# Altium footprint library blecontrollerPCB1_master.PcbLib: 180 footprints (part 9 of 12)
Each footprint in its own frame and in the unit in brackets; x right, y up, seen from the top. Pads: shape width x height; smd on the part's side, far side on the other; paste and mask are expansions set on the pad; w line width, h text height; cw(c..) or ccw(c..) is an arc to the next point about the centre after c.
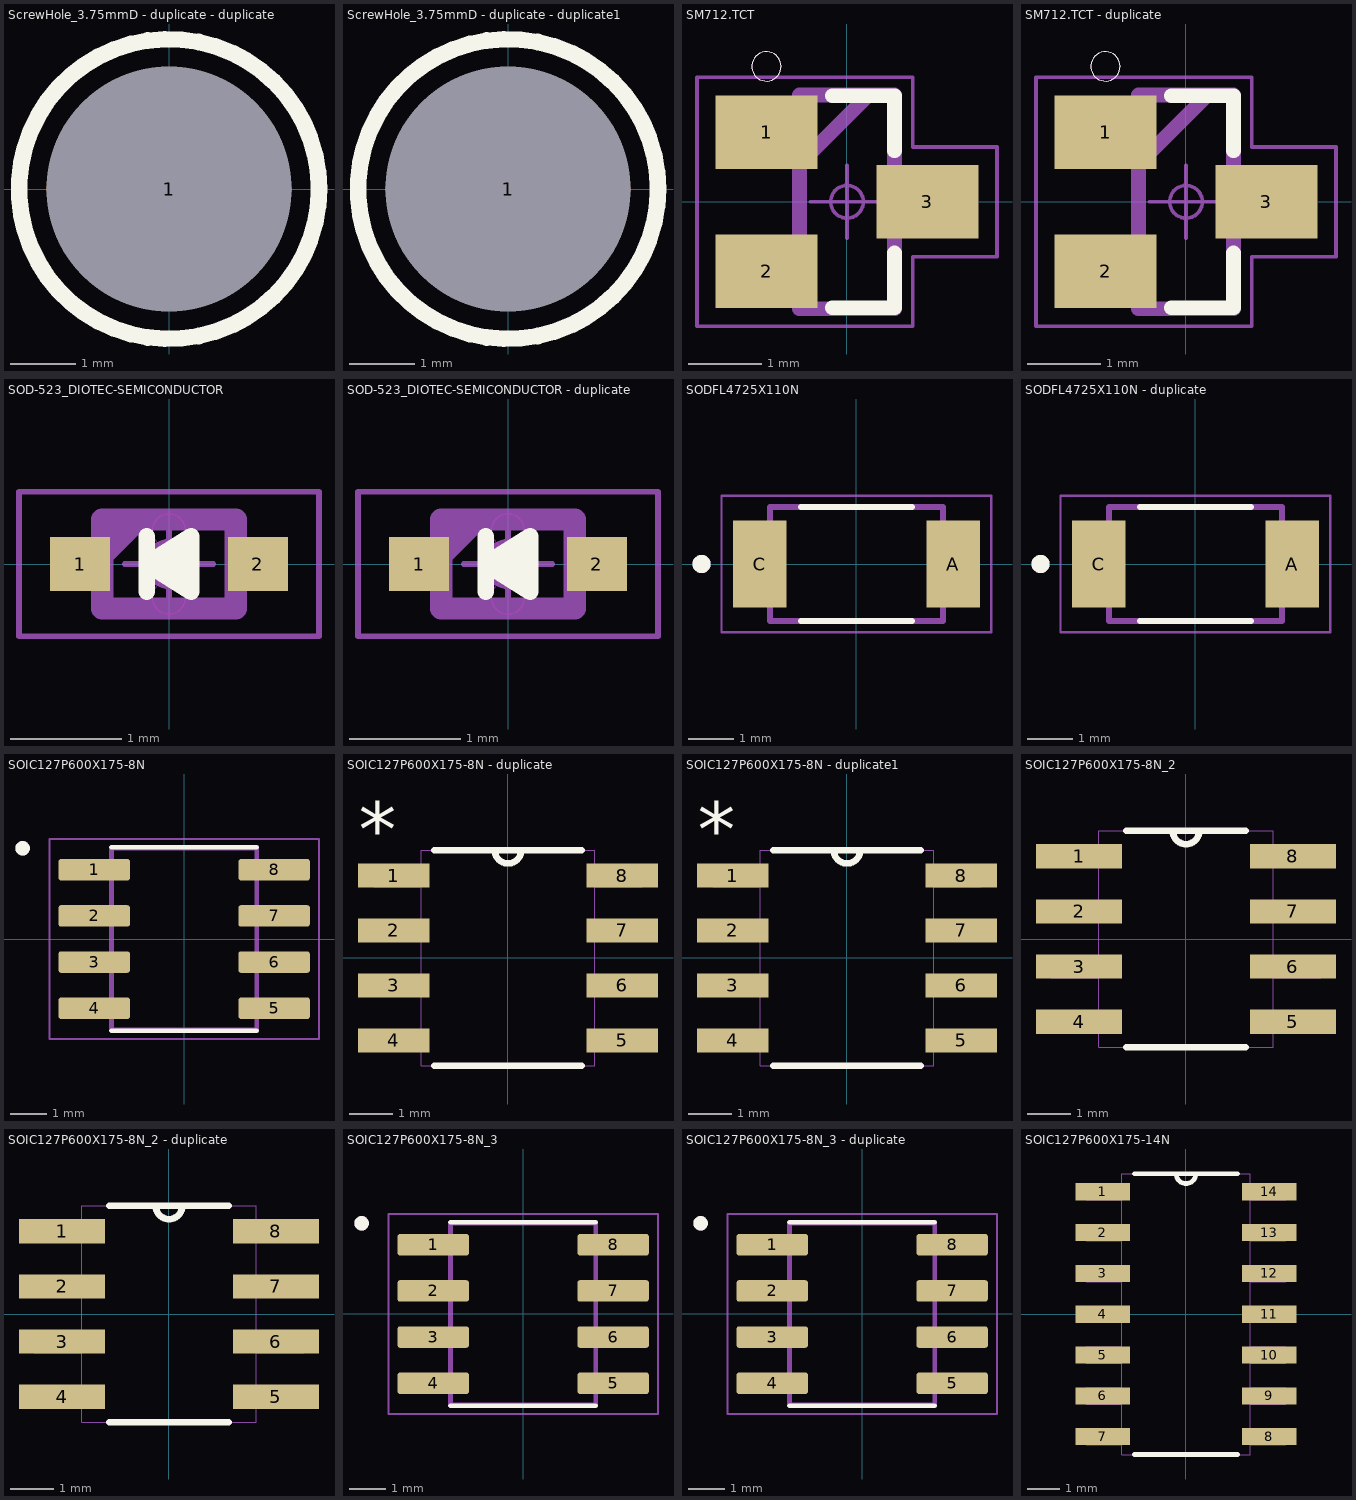
[diagram p8: the footprints below, top view; thin cyan lines are the x and y axes]

## ScrewHole_3.75mmD - duplicate - duplicate [mm]
pads (1):
  round 3.75 hole 3.75 unplated: 1(0,0)
Top Overlay:
  circle w0.254: c0,0 r2.3

## ScrewHole_3.75mmD - duplicate - duplicate1 [mm]
pads (1):
  round 3.75 hole 3.75 unplated: 1(0,0)
Top Overlay:
  circle w0.254: c0,0 r2.3

## SM712.TCT [mm]
pads (3):
  rect 1.4x1 smd paste-2: 1(-1.1,0.95) 2(-1.1,-0.95) 3(1.1,0)
Top Overlay:
  circle w0: c-1.1,1.85 r0.2
  lines w0.2: -0.2,-1.45 0.65,-1.45 0.65,-0.7 ; -0.2,1.45 0.65,1.45 0.65,0.7
Top Paste:
  region: 1.69,-0.38 0.51,-0.38 0.51,0.38 1.69,0.38
  region: -0.51,-1.33 -1.69,-1.33 -1.69,-0.57 -0.51,-0.57
  region: -0.51,0.57 -1.69,0.57 -1.69,1.33 -0.51,1.33
  lines w0.05: -1.7,-1.25 ccw(c-1.6,-1.25) -1.6,-1.35 -0.6,-1.35 ccw(c-0.6,-1.25) -0.5,-1.25 -0.5,-0.65 ccw(c-0.6,-0.65) -0.6,-0.55 -1.6,-0.55 ccw(c-1.6,-0.65) -1.7,-0.65 -1.7,-1.25 ; -1.7,0.65 ccw(c-1.6,0.65) -1.6,0.55 -0.6,0.55 ccw(c-0.6,0.65) -0.5,0.65 -0.5,1.25 ccw(c-0.6,1.25) -0.6,1.35 -1.6,1.35 ccw(c-1.6,1.25) -1.7,1.25 -1.7,0.65 ; 0.5,-0.3 ccw(c0.6,-0.3) 0.6,-0.4 1.6,-0.4 ccw(c1.6,-0.3) 1.7,-0.3 1.7,0.3 ccw(c1.6,0.3) 1.6,0.4 0.6,0.4 ccw(c0.6,0.3) 0.5,0.3 0.5,-0.3
Mechanical 13:
  circle w0: c-1.1,1.85 r0.2
  lines w0.2: -0.65,0.51 0.3,1.46 ; -0.65,-1.46 -0.65,1.46 0.65,1.46 0.65,-1.46 -0.65,-1.46
Mechanical 15:
  circle w0.05: c0,0 r0.224
  lines w0.05: -0.5,0 0.5,0 ; 0,-0.5 0,0.5 ; -2.05,-1.7 0.9,-1.7 0.9,-0.75 2.05,-0.75 2.05,0.75 0.9,0.75 0.9,1.7 -2.05,1.7 -2.05,-1.7
3D body "step_temp.STEP": height 1.2, standoff 0, extent -1.185,-1.45 1.185,1.45

## SM712.TCT - duplicate [mm]
pads (3):
  rect 1.4x1 smd paste-2: 1(-1.1,0.95) 2(-1.1,-0.95) 3(1.1,0)
Top Overlay:
  circle w0: c-1.1,1.85 r0.2
  lines w0.2: -0.2,-1.45 0.65,-1.45 0.65,-0.7 ; -0.2,1.45 0.65,1.45 0.65,0.7
Top Paste:
  region: 1.69,-0.38 0.51,-0.38 0.51,0.38 1.69,0.38
  region: -0.51,-1.33 -1.69,-1.33 -1.69,-0.57 -0.51,-0.57
  region: -0.51,0.57 -1.69,0.57 -1.69,1.33 -0.51,1.33
  lines w0.05: -1.7,-1.25 ccw(c-1.6,-1.25) -1.6,-1.35 -0.6,-1.35 ccw(c-0.6,-1.25) -0.5,-1.25 -0.5,-0.65 ccw(c-0.6,-0.65) -0.6,-0.55 -1.6,-0.55 ccw(c-1.6,-0.65) -1.7,-0.65 -1.7,-1.25 ; -1.7,0.65 ccw(c-1.6,0.65) -1.6,0.55 -0.6,0.55 ccw(c-0.6,0.65) -0.5,0.65 -0.5,1.25 ccw(c-0.6,1.25) -0.6,1.35 -1.6,1.35 ccw(c-1.6,1.25) -1.7,1.25 -1.7,0.65 ; 0.5,-0.3 ccw(c0.6,-0.3) 0.6,-0.4 1.6,-0.4 ccw(c1.6,-0.3) 1.7,-0.3 1.7,0.3 ccw(c1.6,0.3) 1.6,0.4 0.6,0.4 ccw(c0.6,0.3) 0.5,0.3 0.5,-0.3
Mechanical 13:
  circle w0: c-1.1,1.85 r0.2
  lines w0.2: -0.65,0.51 0.3,1.46 ; -0.65,-1.46 -0.65,1.46 0.65,1.46 0.65,-1.46 -0.65,-1.46
Mechanical 15:
  circle w0.05: c0,0 r0.224
  lines w0.05: -0.5,0 0.5,0 ; 0,-0.5 0,0.5 ; -2.05,-1.7 0.9,-1.7 0.9,-0.75 2.05,-0.75 2.05,0.75 0.9,0.75 0.9,1.7 -2.05,1.7 -2.05,-1.7
3D body "step_temp.STEP": height 1.2, standoff 0, extent -1.185,-1.45 1.185,1.45

## SOD-523_DIOTEC-SEMICONDUCTOR [mm]
pads (2):
  rect 0.54x0.49 smd paste-1 mask+0: 1(-0.8,0) 2(0.8,0)
Top Overlay:
  lines w0.152: -0.2,-0.25 -0.2,0 ; -0.2,0.25 -0.2,0 ; 0.1,-0.05 0.1,0.1 -0.05,0.05 0.2,-0.25 ; -0.2,0 0.2,0.25 0.2,-0.25 ; -0.2,0 0.2,-0.25
Top Paste:
  region: -0.575,-0.2 -1.025,-0.2 -1.025,0.195 -0.575,0.195
  region: 1.025,-0.2 0.575,-0.2 0.575,0.195 1.025,0.195
  lines w0.05: -1.03,-0.155 ccw(c-0.98,-0.155) -0.98,-0.205 -0.62,-0.205 ccw(c-0.62,-0.155) -0.57,-0.155 -0.57,0.155 ccw(c-0.62,0.155) -0.62,0.205 -0.98,0.205 ccw(c-0.98,0.155) -1.03,0.155 -1.03,-0.155 ; 0.57,-0.155 ccw(c0.62,-0.155) 0.62,-0.205 0.98,-0.205 ccw(c0.98,-0.155) 1.03,-0.155 1.03,0.155 ccw(c0.98,0.155) 0.98,0.205 0.62,0.205 ccw(c0.62,0.155) 0.57,0.155 0.57,-0.155
Keep-Out Layer:
  circle w0: c0,0.3 r0.15
  circle w0: c0,-0.3 r0.15
Mechanical 13:
  lines w0.2: -0.6,0.08 -0.28,0.4 ; -0.6,-0.4 0.6,-0.4 0.6,0.4 -0.6,0.4 -0.6,-0.4
Mechanical 15:
  circle w0.05: c0,0 r0.2
  lines w0.05: -0.4,0 0,0 ; 0,-0.4 0,0 ; 0,0.4 0,0 ; 0.4,0 0,0 ; -1.35,-0.65 1.35,-0.65 1.35,0.65 -1.35,0.65 -1.35,-0.65
3D body "step_temp.STEP": height 0.85, standoff 0, extent -0.85,-0.35 0.85,0.35

## SOD-523_DIOTEC-SEMICONDUCTOR - duplicate [mm]
pads (2):
  rect 0.54x0.49 smd paste-1 mask+0: 1(-0.8,0) 2(0.8,0)
Top Overlay:
  lines w0.152: -0.2,-0.25 -0.2,0 ; -0.2,0.25 -0.2,0 ; 0.1,-0.05 0.1,0.1 -0.05,0.05 0.2,-0.25 ; -0.2,0 0.2,0.25 0.2,-0.25 ; -0.2,0 0.2,-0.25
Top Paste:
  region: -0.575,-0.2 -1.025,-0.2 -1.025,0.195 -0.575,0.195
  region: 1.025,-0.2 0.575,-0.2 0.575,0.195 1.025,0.195
  lines w0.05: -1.03,-0.155 ccw(c-0.98,-0.155) -0.98,-0.205 -0.62,-0.205 ccw(c-0.62,-0.155) -0.57,-0.155 -0.57,0.155 ccw(c-0.62,0.155) -0.62,0.205 -0.98,0.205 ccw(c-0.98,0.155) -1.03,0.155 -1.03,-0.155 ; 0.57,-0.155 ccw(c0.62,-0.155) 0.62,-0.205 0.98,-0.205 ccw(c0.98,-0.155) 1.03,-0.155 1.03,0.155 ccw(c0.98,0.155) 0.98,0.205 0.62,0.205 ccw(c0.62,0.155) 0.57,0.155 0.57,-0.155
Keep-Out Layer:
  circle w0: c0,0.3 r0.15
  circle w0: c0,-0.3 r0.15
Mechanical 13:
  lines w0.2: -0.6,0.08 -0.28,0.4 ; -0.6,-0.4 0.6,-0.4 0.6,0.4 -0.6,0.4 -0.6,-0.4
Mechanical 15:
  circle w0.05: c0,0 r0.2
  lines w0.05: -0.4,0 0,0 ; 0,-0.4 0,0 ; 0,0.4 0,0 ; 0.4,0 0,0 ; -1.35,-0.65 1.35,-0.65 1.35,0.65 -1.35,0.65 -1.35,-0.65
3D body "step_temp.STEP": height 0.85, standoff 0, extent -0.85,-0.35 0.85,0.35

## SODFL4725X110N [mm]
pads (2):
  rect 1.17x1.92 smd paste+0 mask+0.102: A(2.125,0) C(-2.125,0)
Top Overlay:
  circle w0.2: c-3.4,0 r0.1
  lines w0.127: -1.22,-1.25 1.22,-1.25 ; -1.22,1.25 1.22,1.25
Mechanical 13:
  circle w0.2: c-3.4,0 r0.1
  lines w0.127: -1.9,-1.25 1.9,-1.25 1.9,1.25 -1.9,1.25 -1.9,-1.25
Mechanical 15:
  lines w0.05: -2.96,-1.5 2.96,-1.5 2.96,1.5 -2.96,1.5 -2.96,-1.5

## SODFL4725X110N - duplicate [mm]
pads (2):
  rect 1.17x1.92 smd paste+0 mask+0.102: A(2.125,0) C(-2.125,0)
Top Overlay:
  circle w0.2: c-3.4,0 r0.1
  lines w0.127: -1.22,-1.25 1.22,-1.25 ; -1.22,1.25 1.22,1.25
Mechanical 13:
  circle w0.2: c-3.4,0 r0.1
  lines w0.127: -1.9,-1.25 1.9,-1.25 1.9,1.25 -1.9,1.25 -1.9,-1.25
Mechanical 15:
  lines w0.05: -2.96,-1.5 2.96,-1.5 2.96,1.5 -2.96,1.5 -2.96,-1.5

## SOIC127P600X175-8N [mm]
pads (8):
  rrect25% 1.97x0.59 smd paste+0 mask+0.102: 1(-2.475,1.905) 2(-2.475,0.635) 3(-2.475,-0.635) 4(-2.475,-1.905) 5(2.475,-1.905) 6(2.475,-0.635) 7(2.475,0.635) 8(2.475,1.905)
Top Overlay:
  circle w0.2: c-4.445,2.495 r0.1
  lines w0.127: -2,-2.52 2,-2.52 ; -2,2.52 2,2.52
Mechanical 13:
  circle w0.2: c-4.445,2.495 r0.1
  lines w0.127: -2,-2.5 2,-2.5 2,2.5 -2,2.5 -2,-2.5
Mechanical 15:
  lines w0.05: -3.71,-2.75 3.71,-2.75 3.71,2.75 -3.71,2.75 -3.71,-2.75
3D body "step_temp.STEP": height 1.68, standoff 0, extent -3,-2.49 3,2.49

## SOIC127P600X175-8N - duplicate [mil]
pads (8):
  rect 65x22 smd: 1(-104,75) 2(-104,25) 3(-104,-25) 4(-104,-75) 5(104,-75) 6(104,-25) 7(104,25) 8(104,75)
Top Overlay:
  lines w6: -67,-98 67,-98 ; -67,98 -12,98 ; 67,98 12,98 ; -12,98 ccw(c0,98) 12,98 ; -12,98 12,98
  text "*" at -136,92 h50
Mechanical 13:
  lines w0: -12,98 ccw(c0,98) 12,98 ; -12,98 -79,98 -79,-98 79,-98 79,98 12,98 ; -12,98 12,98 ; -122,-85 -79,-85 -79,-65 -122,-65 -122,-85 ; -122,-35 -79,-35 -79,-15 -122,-15 -122,-35 ; -122,15 -79,15 -79,35 -122,35 -122,15 ; -122,65 -79,65 -79,85 -122,85 -122,65 ; 79,-85 122,-85 122,-65 79,-65 79,-85 ; 79,-35 122,-35 122,-15 79,-15 79,-35 ; 79,15 122,15 122,35 79,35 79,15 ; 79,65 122,65 122,85 79,85 79,65
  text "*" at -136,92 h50
3D body "step_temp.STEP": height 68.9, standoff 0, extent -118.11,-96.46 118.11,96.46

## SOIC127P600X175-8N - duplicate1 [mil]
pads (8):
  rect 65x22 smd: 1(-104,75) 2(-104,25) 3(-104,-25) 4(-104,-75) 5(104,-75) 6(104,-25) 7(104,25) 8(104,75)
Top Overlay:
  lines w6: -67,-98 67,-98 ; -67,98 -12,98 ; 67,98 12,98 ; -12,98 ccw(c0,98) 12,98 ; -12,98 12,98
  text "*" at -136,92 h50
Mechanical 13:
  lines w0: -12,98 ccw(c0,98) 12,98 ; -12,98 -79,98 -79,-98 79,-98 79,98 12,98 ; -12,98 12,98 ; -122,-85 -79,-85 -79,-65 -122,-65 -122,-85 ; -122,-35 -79,-35 -79,-15 -122,-15 -122,-35 ; -122,15 -79,15 -79,35 -122,35 -122,15 ; -122,65 -79,65 -79,85 -122,85 -122,65 ; 79,-85 122,-85 122,-65 79,-65 79,-85 ; 79,-35 122,-35 122,-15 79,-15 79,-35 ; 79,15 122,15 122,35 79,35 79,15 ; 79,65 122,65 122,85 79,85 79,65
  text "*" at -136,92 h50
3D body "step_temp.STEP": height 68.9, standoff 0, extent -118.11,-96.46 118.11,96.46

## SOIC127P600X175-8N_2 [mil]
pads (8):
  rect 78x22 smd: 1(-97,75) 2(-97,25) 3(-97,-25) 4(-97,-75) 5(97,-75) 6(97,-25) 7(97,25) 8(97,75)
Top Overlay:
  lines w6: -54,-98 54,-98 ; -54,98 -12,98 ; 54,98 12,98 ; -12,98 ccw(c0,98) 12,98 ; -12,98 12,98
Mechanical 13:
  lines w0: -12,98 ccw(c0,98) 12,98 ; -12,98 -79,98 -79,-98 79,-98 79,98 12,98 ; -12,98 12,98 ; -122,-85 -79,-85 -79,-65 -122,-65 -122,-85 ; -122,-35 -79,-35 -79,-15 -122,-15 -122,-35 ; -122,15 -79,15 -79,35 -122,35 -122,15 ; -122,65 -79,65 -79,85 -122,85 -122,65 ; 79,-85 122,-85 122,-65 79,-65 79,-85 ; 79,-35 122,-35 122,-15 79,-15 79,-35 ; 79,15 122,15 122,35 79,35 79,15 ; 79,65 122,65 122,85 79,85 79,65
3D body "step_temp.STEP": height 68.9, standoff 0, extent -118.11,-96.46 118.11,96.46

## SOIC127P600X175-8N_2 - duplicate [mil]
pads (8):
  rect 78x22 smd: 1(-97,75) 2(-97,25) 3(-97,-25) 4(-97,-75) 5(97,-75) 6(97,-25) 7(97,25) 8(97,75)
Top Overlay:
  lines w6: -54,-98 54,-98 ; -54,98 -12,98 ; 54,98 12,98 ; -12,98 ccw(c0,98) 12,98 ; -12,98 12,98
Mechanical 13:
  lines w0: -12,98 ccw(c0,98) 12,98 ; -12,98 -79,98 -79,-98 79,-98 79,98 12,98 ; -12,98 12,98 ; -122,-85 -79,-85 -79,-65 -122,-65 -122,-85 ; -122,-35 -79,-35 -79,-15 -122,-15 -122,-35 ; -122,15 -79,15 -79,35 -122,35 -122,15 ; -122,65 -79,65 -79,85 -122,85 -122,65 ; 79,-85 122,-85 122,-65 79,-65 79,-85 ; 79,-35 122,-35 122,-15 79,-15 79,-35 ; 79,15 122,15 122,35 79,35 79,15 ; 79,65 122,65 122,85 79,85 79,65
3D body "step_temp.STEP": height 68.9, standoff 0, extent -118.11,-96.46 118.11,96.46

## SOIC127P600X175-8N_3 [mm]
pads (8):
  rrect25% 1.97x0.59 smd paste+0 mask+0.102: 1(-2.475,1.905) 2(-2.475,0.635) 3(-2.475,-0.635) 4(-2.475,-1.905) 5(2.475,-1.905) 6(2.475,-0.635) 7(2.475,0.635) 8(2.475,1.905)
Top Overlay:
  circle w0.2: c-4.445,2.495 r0.1
  lines w0.127: -2,-2.52 2,-2.52 ; -2,2.52 2,2.52
Mechanical 13:
  circle w0.2: c-4.445,2.495 r0.1
  lines w0.127: -2,-2.5 2,-2.5 2,2.5 -2,2.5 -2,-2.5
Mechanical 15:
  lines w0.05: -3.71,-2.75 3.71,-2.75 3.71,2.75 -3.71,2.75 -3.71,-2.75
3D body "step_temp.STEP": height 1.68, standoff 0, extent -3,-2.49 3,2.49

## SOIC127P600X175-8N_3 - duplicate [mm]
pads (8):
  rrect25% 1.97x0.59 smd paste+0 mask+0.102: 1(-2.475,1.905) 2(-2.475,0.635) 3(-2.475,-0.635) 4(-2.475,-1.905) 5(2.475,-1.905) 6(2.475,-0.635) 7(2.475,0.635) 8(2.475,1.905)
Top Overlay:
  circle w0.2: c-4.445,2.495 r0.1
  lines w0.127: -2,-2.52 2,-2.52 ; -2,2.52 2,2.52
Mechanical 13:
  circle w0.2: c-4.445,2.495 r0.1
  lines w0.127: -2,-2.5 2,-2.5 2,2.5 -2,2.5 -2,-2.5
Mechanical 15:
  lines w0.05: -3.71,-2.75 3.71,-2.75 3.71,2.75 -3.71,2.75 -3.71,-2.75
3D body "step_temp.STEP": height 1.68, standoff 0, extent -3,-2.49 3,2.49

## SOIC127P600X175-14N [mil]
pads (14):
  rect 67x21 smd: 1(-102,150) 2(-102,100) 3(-102,50) 4(-102,0) 5(-102,-50) 6(-102,-100) 7(-102,-150) 8(102,-150) 9(102,-100) 10(102,-50) 11(102,0) 12(102,50) 13(102,100) 14(102,150)
Top Overlay:
  lines w6: -63,-172 63,-172 ; -63,172 -12,172 ; 63,172 12,172 ; -12,172 ccw(c0,172) 12,172 ; -12,172 12,172
Mechanical 13:
  lines w0: -12,172 ccw(c0,172) 12,172 ; -12,172 12,172 ; -12,172 -79,172 -79,-172 79,-172 79,172 12,172 ; -122,-160 -122,-140 -79,-140 -79,-160 -122,-160 ; -122,-110 -122,-90 -79,-90 -79,-110 -122,-110 ; -122,-60 -122,-40 -79,-40 -79,-60 -122,-60 ; -122,-10 -122,10 -79,10 -79,-10 -122,-10 ; -122,40 -122,60 -79,60 -79,40 -122,40 ; -122,90 -122,110 -79,110 -79,90 -122,90 ; -122,140 -122,160 -79,160 -79,140 -122,140 ; 79,-160 79,-140 122,-140 122,-160 79,-160 ; 79,-110 79,-90 122,-90 122,-110 79,-110 ; 79,-60 79,-40 122,-40 122,-60 79,-60 ; 79,-10 79,10 122,10 122,-10 79,-10 ; 79,40 79,60 122,60 122,40 79,40 ; 79,90 79,110 122,110 122,90 79,90 ; 79,140 79,160 122,160 122,140 79,140
3D body "step_temp.STEP": height 68.9, standoff 0, extent -118.11,-170.28 118.11,170.28